# Altium schematic symbol library SW-微动开关.SchLib: 1 symbol
Pins are listed as number, name and electrical type; pins without a type are passive.

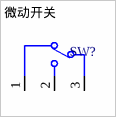
[diagram p0: symbol 微动开关]

## 微动开关
designator SW?
BOM名称: 鼠标微动; 联系下单店铺卖家 免费技术支持: 联系下单店铺卖家 免费帮你查找封装
pins: 1 C, 2 ON, 3 NC